# Altium schematic symbol library mcu.SchLib: 10 symbols
Pins are listed as number, name and electrical type; pins without a type are passive.

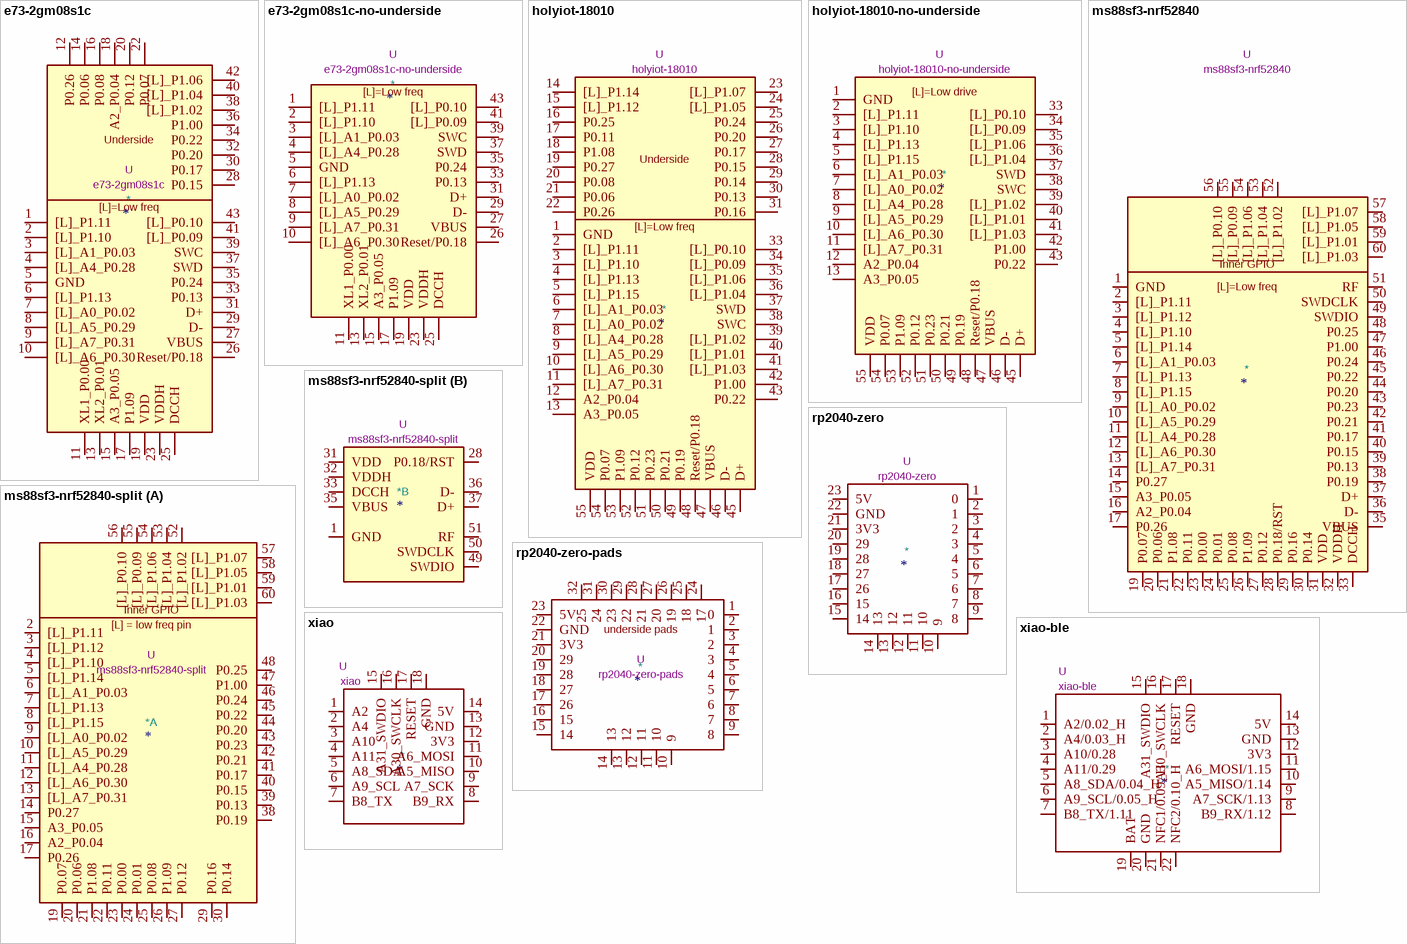
[diagram p0: symbols e73-2gm08s1c to xiao-ble]

## e73-2gm08s1c
designator *  value e73-2gm08s1c  Reference: U
Footprint: mcu:e73-2g4m08s1c; Datasheet: https://datasheet.lcsc.com/lcsc/2106061735_Chengdu-Ebyte-Elec-Tech-E73-2G4M08S1CX_C2764963.pdf
pins: 1 [L]_P1.11, 2 [L]_P1.10, 3 [L]_A1_P0.03, 4 [L]_A4_P0.28, 5 GND, 6 [L]_P1.13, 7 [L]_A0_P0.02, 8 [L]_A5_P0.29, 9 [L]_A7_P0.31, 10 [L]_A6_P0.30, 11 XL1_P0.00, 12 P0.26, 13 XL2_P0.01, 14 P0.06, 15 A3_P0.05, 16 P0.08, 17 P1.09, 18 A2_P0.04, 19 VDD, 20 P0.12, 21 GND hidden, 22 P0.07, 23 VDDH, 24 GND hidden, 25 DCCH, 26 Reset/P0.18, 27 VBUS, 28 P0.15, 29 D-, 30 P0.17, 31 D+, 32 P0.20, 33 P0.13, 34 P0.22, 35 P0.24, 36 P1.00, 37 SWD, 38 [L]_P1.02, 39 SWC, 40 [L]_P1.04, 41 [L]_P0.09, 42 [L]_P1.06, 43 [L]_P0.10
text: Underside; [L]=Low freq

## e73-2gm08s1c-no-underside
designator *  value e73-2gm08s1c-no-underside  Reference: U
Footprint: mcu:e73-2g4m08s1c-no-underside; Datasheet: https://datasheet.lcsc.com/lcsc/2106061735_Chengdu-Ebyte-Elec-Tech-E73-2G4M08S1CX_C2764963.pdf
pins: 1 [L]_P1.11, 2 [L]_P1.10, 3 [L]_A1_P0.03, 4 [L]_A4_P0.28, 5 GND, 6 [L]_P1.13, 7 [L]_A0_P0.02, 8 [L]_A5_P0.29, 9 [L]_A7_P0.31, 10 [L]_A6_P0.30, 11 XL1_P0.00, 13 XL2_P0.01, 15 A3_P0.05, 17 P1.09, 19 VDD, 21 GND hidden, 23 VDDH, 24 GND hidden, 25 DCCH, 26 Reset/P0.18, 27 VBUS, 29 D-, 31 D+, 33 P0.13, 35 P0.24, 37 SWD, 39 SWC, 41 [L]_P0.09, 43 [L]_P0.10
text: [L]=Low freq

## holyiot-18010
designator *  value holyiot-18010  Reference: U
Footprint: mcu:holyiot-18010
pins: 1 GND, 2 [L]_P1.11, 3 [L]_P1.10, 4 [L]_P1.13, 5 [L]_P1.15, 6 [L]_A1_P0.03, 7 [L]_A0_P0.02, 8 [L]_A4_P0.28, 9 [L]_A5_P0.29, 10 [L]_A6_P0.30, 11 [L]_A7_P0.31, 12 A2_P0.04, 13 A3_P0.05, 14 [L]_P1.14, 15 [L]_P1.12, 16 P0.25, 17 P0.11, 18 P1.08, 19 P0.27, 20 P0.08, 21 P0.06, 22 P0.26, 23 [L]_P1.07, 24 [L]_P1.05, 25 P0.24, 26 P0.20, 27 P0.17, 28 P0.15, 29 P0.14, 30 P0.13, 31 P0.16, 32 GND hidden, 33 [L]_P0.10, 34 [L]_P0.09, 35 [L]_P1.06, 36 [L]_P1.04, 37 SWD, 38 SWC, 39 [L]_P1.02, 40 [L]_P1.01, 41 [L]_P1.03, 42 P1.00, 43 P0.22, 44 GND hidden, 45 D+, 46 D-, 47 VBUS, 48 Reset/P0.18, 49 P0.19, 50 P0.21, 51 P0.23, 52 P0.12, 53 P1.09, 54 P0.07, 55 VDD
text: Underside; [L]=Low freq

## holyiot-18010-no-underside
designator *  value holyiot-18010-no-underside  Reference: U
Footprint: mcu:holyiot-18010-no-underside
pins: 1 GND, 2 [L]_P1.11, 3 [L]_P1.10, 4 [L]_P1.13, 5 [L]_P1.15, 6 [L]_A1_P0.03, 7 [L]_A0_P0.02, 8 [L]_A4_P0.28, 9 [L]_A5_P0.29, 10 [L]_A6_P0.30, 11 [L]_A7_P0.31, 12 A2_P0.04, 13 A3_P0.05, 32 GND hidden, 33 [L]_P0.10, 34 [L]_P0.09, 35 [L]_P1.06, 36 [L]_P1.04, 37 SWD, 38 SWC, 39 [L]_P1.02, 40 [L]_P1.01, 41 [L]_P1.03, 42 P1.00, 43 P0.22, 44 GND hidden, 45 D+, 46 D-, 47 VBUS, 48 Reset/P0.18, 49 P0.19, 50 P0.21, 51 P0.23, 52 P0.12, 53 P1.09, 54 P0.07, 55 VDD
text: [L]=Low drive

## ms88sf3-nrf52840
designator *  value ms88sf3-nrf52840  Reference: U
ki_description: Small nRF52840 based module; Footprint: mcu:ms88sf3; Datasheet: https://www.minew.com/uploads/MS88SF3_V1.1-nRF52840-Datasheet.pdf
pins: 1 GND, 2 [L]_P1.11, 3 [L]_P1.12, 4 [L]_P1.10, 5 [L]_P1.14, 6 [L]_A1_P0.03, 7 [L]_P1.13, 8 [L]_P1.15, 9 [L]_A0_P0.02, 10 [L]_A5_P0.29, 11 [L]_A4_P0.28, 12 [L]_A6_P0.30, 13 [L]_A7_P0.31, 14 P0.27, 15 A3_P0.05, 16 A2_P0.04, 17 P0.26, 18 GND hidden, 19 P0.07, 20 P0.06, 21 P1.08, 22 P0.11, 23 P0.00, 24 P0.01, 25 P0.08, 26 P1.09, 27 P0.12, 28 P0.18/RST, 29 P0.16, 30 P0.14, 31 VDD, 32 VDDH, 33 DCCH, 34 GND hidden, 35 VBUS, 36 D-, 37 D+, 38 P0.19, 39 P0.13, 40 P0.15, 41 P0.17, 42 P0.21, 43 P0.23, 44 P0.20, 45 P0.22, 46 P0.24, 47 P1.00, 48 P0.25, 49 SWDIO, 50 SWDCLK, 51 RF, 52 [L]_P1.02, 53 [L]_P1.04, 54 [L]_P1.06, 55 [L]_P0.09, 56 [L]_P0.10, 57 [L]_P1.07, 58 [L]_P1.05, 59 [L]_P1.01, 60 [L]_P1.03, 61 GND hidden, 62 GND hidden, 63 GND hidden, 64 GND hidden
text: Inner GPIO; [L]=Low freq

## ms88sf3-nrf52840-split
designator *  value ms88sf3-nrf52840-split  Reference: U
Footprint: mcu:ms88sf3; Datasheet: https://www.minew.com/uploads/MS88SF3_V1.1-nRF52840-Datasheet.pdf
part A pins: 2 [L]_P1.11, 3 [L]_P1.12, 4 [L]_P1.10, 5 [L]_P1.14, 6 [L]_A1_P0.03, 7 [L]_P1.13, 8 [L]_P1.15, 9 [L]_A0_P0.02, 10 [L]_A5_P0.29, 11 [L]_A4_P0.28, 12 [L]_A6_P0.30, 13 [L]_A7_P0.31, 14 P0.27, 15 A3_P0.05, 16 A2_P0.04, 17 P0.26, 19 P0.07, 20 P0.06, 21 P1.08, 22 P0.11, 23 P0.00, 24 P0.01, 25 P0.08, 26 P1.09, 27 P0.12, 29 P0.16, 30 P0.14, 38 P0.19, 39 P0.13, 40 P0.15, 41 P0.17, 42 P0.21, 43 P0.23, 44 P0.20, 45 P0.22, 46 P0.24, 47 P1.00, 48 P0.25, 52 [L]_P1.02, 53 [L]_P1.04, 54 [L]_P1.06, 55 [L]_P0.09, 56 [L]_P0.10, 57 [L]_P1.07, 58 [L]_P1.05, 59 [L]_P1.01, 60 [L]_P1.03
part B pins: 1 GND, 18 GND hidden, 28 P0.18/RST, 31 VDD, 32 VDDH, 33 DCCH, 34 GND hidden, 35 VBUS, 36 D-, 37 D+, 49 SWDIO, 50 SWDCLK, 51 RF, 61 GND hidden, 62 GND hidden, 63 GND hidden, 64 GND hidden
part A text: Inner GPIO; [L] = low freq pin

## rp2040-zero
designator *  value rp2040-zero  Reference: U
pins: 1 0, 2 1, 3 2, 4 3, 5 4, 6 5, 7 6, 8 7, 9 8, 10 9, 11 10, 12 11, 13 12, 14 13, 15 14, 16 15, 17 26, 18 27, 19 28, 20 29, 21 3V3, 22 GND, 23 5V

## rp2040-zero-pads
designator *  value rp2040-zero-pads  Reference: U
pins: 1 0, 2 1, 3 2, 4 3, 5 4, 6 5, 7 6, 8 7, 9 8, 10 9, 11 10, 12 11, 13 12, 14 13, 15 14, 16 15, 17 26, 18 27, 19 28, 20 29, 21 3V3, 22 GND, 23 5V, 24 17, 25 18, 26 19, 27 20, 28 21, 29 22, 30 23, 31 24, 32 25, 33 GND hidden
text: underside pads

## xiao
designator *  value xiao  Reference: U
pins: 1 A2, 2 A4, 3 A10, 4 A11, 5 A8_SDA, 6 A9_SCL, 7 B8_TX, 8 B9_RX, 9 A7_SCK, 10 A5_MISO, 11 A6_MOSI, 12 3V3, 13 GND, 14 5V, 15 A31_SWDIO, 16 A30_SWCLK, 17 RESET, 18 GND

## xiao-ble
designator *  value xiao-ble  Reference: U
pins: 1 A2/0.02_H, 2 A4/0.03_H, 3 A10/0.28, 4 A11/0.29, 5 A8_SDA/0.04_H, 6 A9_SCL/0.05_H, 7 B8_TX/1.11, 8 B9_RX/1.12, 9 A7_SCK/1.13, 10 A5_MISO/1.14, 11 A6_MOSI/1.15, 12 3V3, 13 GND, 14 5V, 15 A31_SWDIO, 16 A30_SWCLK, 17 RESET, 18 GND, 19 BAT, 20 GND, 21 NFC1/0.09_H, 22 NFC2/0.10_H